# EAGLE library part PIN06 (library SmdDisc)
Popis viz. 3 pinovy
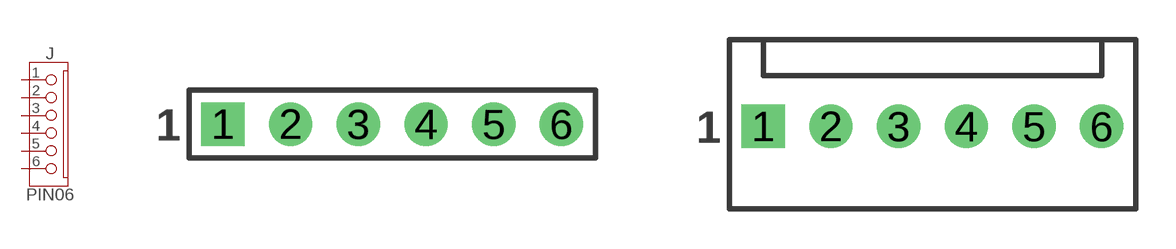
[diagram p1: symbol with the pads of PIN06; footprints PIN06, MOLEX06]

Designator prefix J

## PIN06-LISTA  [PIN06]
1  1
2  2
3  3
4  4
5  5
6  6

## PIN06-MOLEX  [MOLEX06]
Pads as for PIN06

## Footprint PIN06 (pad centres in mm)
drill 1 pad 1.626 square: 1 -6.35,0
drill 1 pad 1.626: 2 -3.81,0; 3 -1.27,0; 4 1.27,0; 5 3.81,0; 6 6.35,0

## Footprint MOLEX06 (pad centres in mm)
drill 1 pad 1.626 square: 1 -6.35,0
drill 1 pad 1.626: 2 -3.81,0; 3 -1.27,0; 4 1.27,0; 5 3.81,0; 6 6.35,0